# EAGLE library part JAE-SG5S009V1A (library sdcard)
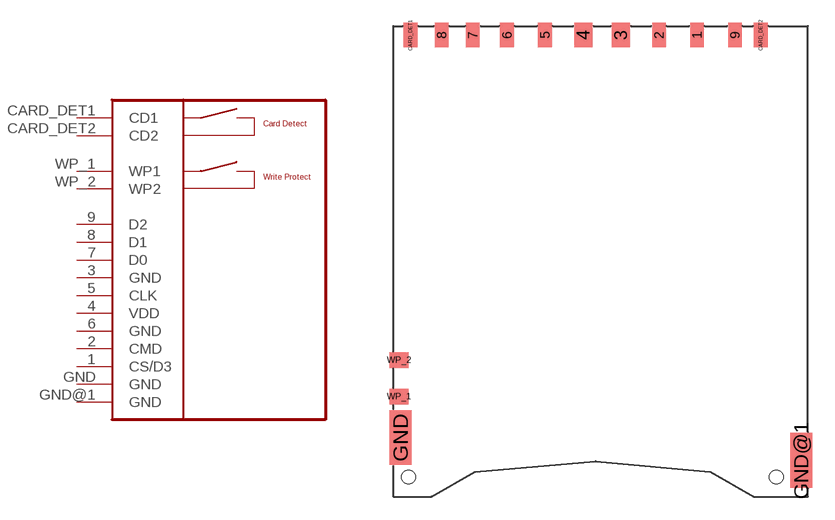
[diagram p0: symbol with the pads of JAE-SG5S009V1A; footprint JAE-SG5S009V1A]

Designator prefix -

## JAE-SG5S009V1A  [JAE-SG5S009V1A]
1  CS/D3
2  CMD
3  GND
4  VDD
5  CLK
6  GND
7  D0
8  D1
9  D2
CARD_DET1  CD1
CARD_DET2  CD2
GND  GND
GND@1  GND
WP_1  WP1
WP_2  WP2

## Footprint JAE-SG5S009V1A (pad centres in mm)
smd 0.9 x 1.6: 1 6.875,14.44; 2 4.375,14.44; 5 -3.125,14.44; 6 -5.625,14.44; 7 -7.875,14.44; 8 -9.925,14.44; 9 9.375,14.44; CARD_DET1 -11.975,14.44; CARD_DET2 11.075,14.44
smd 1.2 x 1.6: 3 1.875,14.44; 4 -0.6,14.44
smd 1.45 x 3.6: GND -12.625,-12.06; GND@1 13.725,-13.56
smd 1.25 x 1: WP_1 -12.725,-9.36; WP_2 -12.725,-6.96
hole 0.9 at -12.1,-14.66
hole 0.9 at 12.1,-14.66